# Altium schematic symbol library KTU_Resistors.SchLib: 7 symbols
Pins are listed as number, name and electrical type; pins without a type are passive.

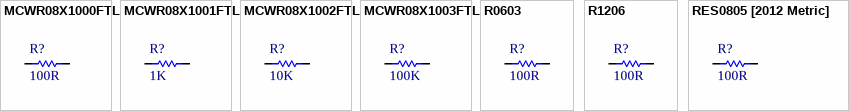
[diagram p0: symbols MCWR08X1000FTL to RES0805 [2012 Metric]]

## MCWR08X1000FTL
designator R?, comment 100R
RES, Thick Film, 100R, 150V, 0805 [2012 Metric], 125mW, ±1%, MCWR Series; Manufacturer: MULTICOMP; Manufacturer Part Number: MCWR08X1000FTL; Temperature Coefficient: ±100ppm/°C; Value: 100R; Supplier 1: Farnell; Supplier Part Number 1: 2447552; Tollerance: ±1%; Power: 125mW; Voltage: 150V; Package: 0805 [2012 Metric]; Part type: Thick Film; Mounting Technology: Surface Mount
footprint R0805 (Footprint not found)
pins: 1, 2
1 alternate drawing of the same symbol

## MCWR08X1001FTL
designator R?, comment 1K
RES, Thick Film, 1K, 150V, 0805 [2012 Metric], 125mW, ±1%, MCWR Series; Manufacturer: MULTICOMP; Manufacturer Part Number: MCWR08X1001FTL; Temperature Coefficient: ±100ppm/°C; Value: 1K; Supplier 1: Farnell; Supplier Part Number 1: 2447587; Tollerance: ±1%; Power: 125mW; Voltage: 150V; Package: 0805 [2012 Metric]; Part type: Thick Film; Mounting Technology: Surface Mount
footprint R0805
pins: 1, 2
1 alternate drawing of the same symbol

## MCWR08X1002FTL
designator R?, comment 10K
RES, Thick Film, 10K, 150V, 0805 [2012 Metric], 125mW, ±1%, MCWR Series; Manufacturer: MULTICOMP; Manufacturer Part Number: MCWR08X1002FTL; Temperature Coefficient: ±100ppm/°C; Value: 10K; Supplier 1: Farnell; Supplier Part Number 1: 2447553; Tollerance: ±1%; Power: 125mW; Voltage: 150V; Package: 0805 [2012 Metric]; Part type: Thick Film; Mounting Technology: Surface Mount
footprint R0805 (Footprint not found)
pins: 1, 2
1 alternate drawing of the same symbol

## MCWR08X1003FTL
designator R?, comment 100K
RES, Thick Film, 100K, 150V, 0805 [2012 Metric], 125mW, ±1%, MCWR Series; Manufacturer: MULTICOMP; Manufacturer Part Number: MCWR08X1003FTL; Temperature Coefficient: ±100ppm/°C; Value: 100K; Supplier 1: Farnell; Supplier Part Number 1: 2447551; Tollerance: ±1%; Power: 125mW; Voltage: 150V; Package: 0805 [2012 Metric]; Part type: Thick Film; Mounting Technology: Surface Mount
footprint R0805 (Footprint not found)
pins: 1, 2
1 alternate drawing of the same symbol

## R0603
designator R?, comment 100R
RES, Thick Film, 100R, 150V, 0805 [2012 Metric], 125mW, ±1%, MCWR Series; Manufacturer: MULTICOMP; Manufacturer Part Number: MCWR08X1000FTL; Temperature Coefficient: ±100ppm/°C; Value: 100R; Supplier 1: Farnell; Supplier Part Number 1: 2447552; Tollerance: ±1%; Power: 125mW; Voltage: 150V; Package: 0805 [2012 Metric]; Part type: Thick Film; Mounting Technology: Surface Mount
footprint R0805 (Footprint not found)
pins: 1, 2
1 alternate drawing of the same symbol

## R1206
designator R?, comment 100R
RES, Thick Film, 100R, 150V, 0805 [2012 Metric], 125mW, ±1%, MCWR Series; Manufacturer: MULTICOMP; Manufacturer Part Number: MCWR08X1000FTL; Temperature Coefficient: ±100ppm/°C; Value: 100R; Supplier 1: Farnell; Supplier Part Number 1: 2447552; Tollerance: ±1%; Power: 125mW; Voltage: 150V; Package: 0805 [2012 Metric]; Part type: Thick Film; Mounting Technology: Surface Mount
footprint R0805 (Footprint not found)
pins: 1, 2
1 alternate drawing of the same symbol

## RES0805 [2012 Metric]
designator R?, comment 100R
RES, Thick Film, 100R, 150V, 0805 [2012 Metric], 125mW, ±1%; Manufacturer: MULTICOMP; Manufacturer Part Number: MCWR08X1000FTL; Temperature Coefficient: ±100ppm/°C; Value: 100R; Supplier 1: Farnell; Supplier Part Number 1: 2447552; Tollerance: ±1%; Power: 125mW; Voltage: 150V; Package: 0805 [2012 Metric]; Part type: Thick Film; Mounting Technology: Surface Mount
footprint R0805 (Footprint not found)
pins: 1, 2
1 alternate drawing of the same symbol